# Altium footprint library FM-160LCD.PcbLib: 2 footprints
Each footprint in its own frame and in the unit in brackets; x right, y up, seen from the top. Pads: shape width x height; smd on the part's side, far side on the other; paste and mask are expansions set on the pad; w line width, h text height; cw(c..) or ccw(c..) is an arc to the next point about the centre after c.
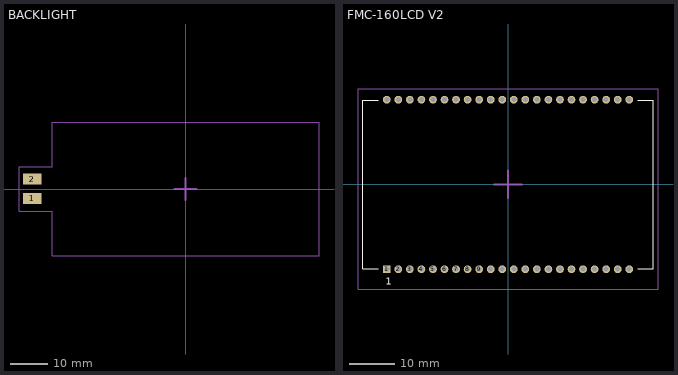
[diagram p0: the footprints below, top view; thin cyan lines are the x and y axes]

## BACKLIGHT [mm]
pads (2):
  rect 5x3 smd: 1(-41.402,-2.54) 2(-41.402,2.667)
Top Courtyard (Mech15):
  lines w0.2: -45,-6 -45,6 -36,6 -36,18 36,18 36,-18 -36,-18 -36,-6 -45,-6
  lines w0.5: -3,0 0,0 ; 0,-3 0,0 ; 0,3 0,0 ; 3,0 0,0
  text "'.Designator'" at -22.904,5.788 h2
3D body: height 3, standoff 1, extent -34.5,-16.5 34.5,16.5
3D body: height 2, standoff 1, extent -39.37,2.04 -34.5,3.04
3D body: height 2, standoff 1, extent -39.37,-3.04 -34.5,-2.04

## FMC-160LCD V2 [mm]
pads (44):
  rect 1.7x1.7 hole 1.1: 1(-26.67,-18.65)
  round 1.7 hole 1.1: 2(-24.13,-18.65) 3(-21.59,-18.65) 4(-19.05,-18.65) 5(-16.51,-18.65) 6(-13.97,-18.65) 7(-11.43,-18.65) 8(-8.89,-18.65) 9(-6.35,-18.65) 10(-3.81,-18.65) 11(-1.27,-18.65) 12(1.27,-18.65) 13(3.81,-18.65) 14(6.35,-18.65) 15(8.89,-18.65) 16(11.43,-18.65) 17(13.97,-18.65) 18(16.51,-18.65) 19(19.05,-18.65) 20(21.59,-18.65) 21(24.13,-18.65) 22(26.67,-18.65) 23(26.67,18.65) 24(24.13,18.65) 25(21.59,18.65) 26(19.05,18.65) 27(16.51,18.65) 28(13.97,18.65) 29(11.43,18.65) 30(8.89,18.65) 31(6.35,18.65) 32(3.81,18.65) 33(1.27,18.65) 34(-1.27,18.65) 35(-3.81,18.65) 36(-6.35,18.65) 37(-8.89,18.65) 38(-11.43,18.65) 39(-13.97,18.65) 40(-16.51,18.65) 41(-19.05,18.65) 42(-21.59,18.65) 43(-24.13,18.65) 44(-26.67,18.65)
Top Overlay:
  lines w0.254: -28.5,-18.5 -32.004,-18.5 -32.004,18.5 -28.5,18.5 ; 28.5,-18.5 32.004,-18.5 32.004,18.5 28.5,18.5
  text "1" at -26.921,-22.021 h1.52
Top Courtyard (Mech15):
  lines w0.2: -33,-23 33,-23 33,21 -33,21 -33,-23
  lines w0.5: -3,0 0,0 3,0 ; 0.017,-3 0.017,0 0.017,3
  text "'.Designator'" at 13,-0.624 h2
3D body: height 7, standoff 4, extent -32,-18.5 32,18.5
3D body: height 2, standoff -2, extent -26.92,-18.919 -26.42,-18.419
3D body: height 2, standoff -2, extent -24.38,-18.9 -23.88,-18.4
3D body: height 2, standoff -2, extent -21.84,-18.9 -21.34,-18.4
3D body: height 2, standoff -2, extent -19.3,-18.9 -18.8,-18.4
3D body: height 2, standoff -2, extent -16.76,-18.9 -16.26,-18.4
3D body: height 2, standoff -2, extent -14.22,-18.9 -13.72,-18.4
3D body: height 2, standoff -2, extent -11.68,-18.9 -11.18,-18.4
3D body: height 2, standoff -2, extent -9.14,-18.9 -8.64,-18.4
3D body: height 2, standoff -2, extent -6.6,-18.9 -6.1,-18.4
3D body: height 2, standoff -2, extent -4.06,-18.9 -3.56,-18.4
3D body: height 2, standoff -2, extent -1.52,-18.9 -1.02,-18.4
3D body: height 2, standoff -2, extent 1.02,-18.9 1.52,-18.4
3D body: height 2, standoff -2, extent 3.56,-18.9 4.06,-18.4
3D body: height 2, standoff -2, extent 6.1,-18.9 6.6,-18.4
3D body: height 2, standoff -2, extent 8.64,-18.9 9.14,-18.4
3D body: height 2, standoff -2, extent 11.18,-18.9 11.68,-18.4
3D body: height 2, standoff -2, extent 13.72,-18.9 14.22,-18.4
3D body: height 2, standoff -2, extent 16.26,-18.9 16.76,-18.4
3D body: height 2, standoff -2, extent 18.8,-18.9 19.3,-18.4
3D body: height 2, standoff -2, extent 21.34,-18.9 21.84,-18.4
3D body: height 2, standoff -2, extent 23.88,-18.9 24.38,-18.4
3D body: height 2, standoff -2, extent 26.42,-18.9 26.92,-18.4
3D body: height 7, standoff 2, extent -27.559,-19.558 -25.781,-17.78
3D body: height 7, standoff 2, extent -25.019,-19.539 -23.241,-17.761
3D body: height 7, standoff 2, extent -22.479,-19.539 -20.701,-17.761
3D body: height 7, standoff 2, extent -19.939,-19.539 -18.161,-17.761
3D body: height 7, standoff 2, extent -14.859,-19.539 -13.081,-17.761
3D body: height 7, standoff 2, extent -12.319,-19.539 -10.541,-17.761
3D body: height 7, standoff 2, extent -7.239,-19.539 -5.461,-17.761
3D body: height 7, standoff 2, extent -4.699,-19.539 -2.921,-17.761
3D body: height 7, standoff 2, extent 0.381,-19.539 2.159,-17.761
3D body: height 7, standoff 2, extent 2.921,-19.539 4.699,-17.761
3D body: height 7, standoff 2, extent 8.001,-19.539 9.779,-17.761
3D body: height 7, standoff 2, extent 10.541,-19.539 12.319,-17.761
3D body: height 7, standoff 2, extent 13.081,-19.539 14.859,-17.761
3D body: height 7, standoff 2, extent 15.621,-19.539 17.399,-17.761
3D body: height 7, standoff 2, extent 18.161,-19.539 19.939,-17.761
3D body: height 7, standoff 2, extent 20.701,-19.539 22.479,-17.761
3D body: height 7, standoff 2, extent 25.781,-19.539 27.559,-17.761
3D body: height 7, standoff 2, extent -17.399,-19.539 -15.621,-17.761
3D body: height 7, standoff 2, extent -9.779,-19.539 -8.001,-17.761
3D body: height 7, standoff 2, extent -2.159,-19.539 -0.381,-17.761
3D body: height 7, standoff 2, extent 5.461,-19.539 7.239,-17.761
3D body: height 7, standoff 2, extent 23.241,-19.539 25.019,-17.761
3D body: height 2, standoff -2, extent -26.92,18.4 -26.42,18.9
3D body: height 2, standoff -2, extent -24.38,18.4 -23.88,18.9
3D body: height 2, standoff -2, extent -21.84,18.4 -21.34,18.9
3D body: height 2, standoff -2, extent -19.3,18.4 -18.8,18.9
3D body: height 2, standoff -2, extent -16.76,18.4 -16.26,18.9
3D body: height 2, standoff -2, extent -14.22,18.4 -13.72,18.9
3D body: height 2, standoff -2, extent -11.68,18.4 -11.18,18.9
3D body: height 2, standoff -2, extent -9.14,18.4 -8.64,18.9
3D body: height 2, standoff -2, extent -6.6,18.4 -6.1,18.9
3D body: height 2, standoff -2, extent -4.06,18.4 -3.56,18.9
3D body: height 2, standoff -2, extent -1.52,18.4 -1.02,18.9
3D body: height 2, standoff -2, extent 1.02,18.4 1.52,18.9
3D body: height 2, standoff -2, extent 3.56,18.4 4.06,18.9
3D body: height 2, standoff -2, extent 6.1,18.4 6.6,18.9
3D body: height 2, standoff -2, extent 8.64,18.4 9.14,18.9
3D body: height 2, standoff -2, extent 11.18,18.4 11.68,18.9
3D body: height 2, standoff -2, extent 13.72,18.4 14.22,18.9
3D body: height 2, standoff -2, extent 16.26,18.4 16.76,18.9
3D body: height 2, standoff -2, extent 18.8,18.4 19.3,18.9
3D body: height 2, standoff -2, extent 21.34,18.4 21.84,18.9
3D body: height 2, standoff -2, extent 23.88,18.4 24.38,18.9
3D body: height 2, standoff -2, extent 26.42,18.4 26.92,18.9
3D body: height 7, standoff 2, extent -27.559,17.761 -25.781,19.539
3D body: height 7, standoff 2, extent -25.019,17.761 -23.241,19.539
3D body: height 7, standoff 2, extent -22.479,17.761 -20.701,19.539
3D body: height 7, standoff 2, extent -19.939,17.761 -18.161,19.539
3D body: height 7, standoff 2, extent -14.859,17.761 -13.081,19.539
3D body: height 7, standoff 2, extent -12.319,17.761 -10.541,19.539
3D body: height 7, standoff 2, extent -7.239,17.761 -5.461,19.539
3D body: height 7, standoff 2, extent -4.699,17.761 -2.921,19.539
3D body: height 7, standoff 2, extent 0.381,17.761 2.159,19.539
3D body: height 7, standoff 2, extent 2.921,17.761 4.699,19.539
3D body: height 7, standoff 2, extent 8.001,17.761 9.779,19.539
3D body: height 7, standoff 2, extent 10.541,17.761 12.319,19.539
3D body: height 7, standoff 2, extent 13.081,17.761 14.859,19.539
3D body: height 7, standoff 2, extent 15.621,17.761 17.399,19.539
3D body: height 7, standoff 2, extent 18.161,17.761 19.939,19.539
3D body: height 7, standoff 2, extent 20.701,17.761 22.479,19.539
3D body: height 7, standoff 2, extent 25.781,17.761 27.559,19.539
3D body: height 7, standoff 2, extent -17.399,17.761 -15.621,19.539
3D body: height 7, standoff 2, extent -9.779,17.761 -8.001,19.539
3D body: height 7, standoff 2, extent -2.159,17.761 -0.381,19.539
3D body: height 7, standoff 2, extent 5.461,17.761 7.239,19.539
3D body: height 7, standoff 2, extent 23.241,17.761 25.019,19.539